# Altium footprint library HDRVS20W25P100_10X2_1295X346H346.PcbLib: 1 footprints
Each footprint in its own frame and in the unit in brackets; x right, y up, seen from the top. Pads: shape width x height; smd on the part's side, far side on the other; paste and mask are expansions set on the pad; w line width, h text height; cw(c..) or ccw(c..) is an arc to the next point about the centre after c.
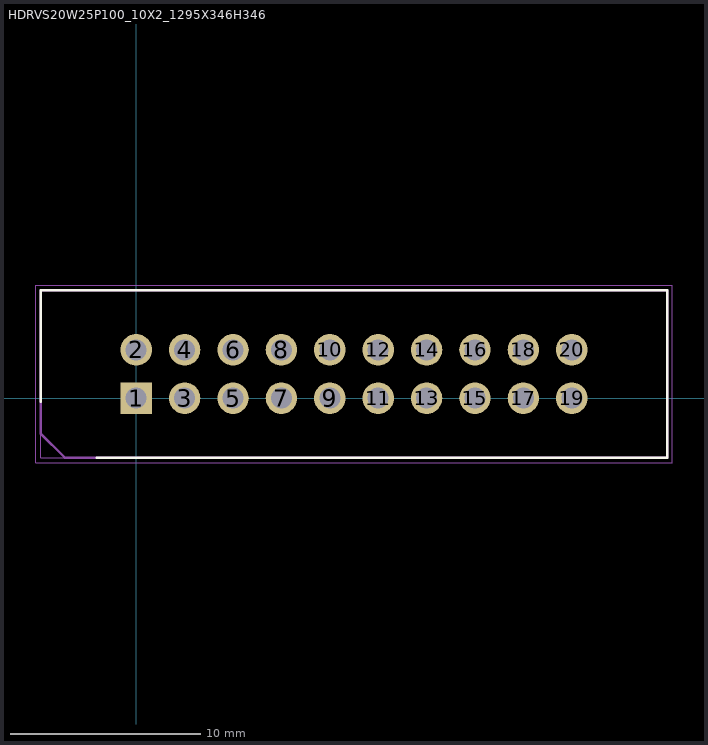
[diagram p0: the footprint, top view; thin cyan lines are the x and y axes]

## HDRVS20W25P100_10X2_1295X346H346 [mil] "Header, Vertical Shrouded, 100 mil pitch; 25 mil lead width, 20 pins, 2 rows, 10 pins per row, 1295 mil L X 346 mil W X 346 mil H body"
height 346
pads (20):
  rect 65.03x65.03 hole 43.36 paste-65.03: 1(0,0)
  round 65.03 hole 43.36 paste-65.03: 2(0,100) 3(100,0) 4(100,100) 5(200,0) 6(200,100) 7(300,0) 8(300,100) 9(400,0) 10(400,100) 11(500,0) 12(500,100) 13(600,0) 14(600,100) 15(700,0) 16(700,100) 17(800,0) 18(800,100) 19(900,0) 20(900,100)
Top Overlay:
  lines w5: -197.5,-7.67 -197.5,223 1097.5,223 1097.5,-123 -82.17,-123
Mechanical 11:
  lines w5: -197.5,-73 -147.5,-123 1097.5,-123 1097.5,223 -197.5,223 -197.5,-73
Mechanical 12:
  lines w0.98: -197.5,-123 -197.5,223 1097.5,223 1097.5,-123 -197.5,-123
Mechanical 15:
  circle w2: c0,0 r12
  lines w2: -16,0 16,0 ; 0,-16 0,16 ; -207.5,-133 -207.5,233 1107.5,233 1107.5,-133 -207.5,-133
3D body: height 350, standoff -130, extent -125,-140 1025,233